# Altium integrated library USB_A_SMD.IntLib: 1 symbol
Pins are listed as number, name and electrical type; pins without a type are passive.

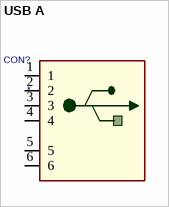
[diagram p0: symbol USB A]

## USB A
designator CON?
ID: USB - A; BUY_LINK: http://www.digikey.com/product-detail/en/AU-Y1006-2-R/AE10332-ND/2077795; PDF: http://www.assmann.us/specs/AU-Y1006-2-R.pdf; PRICE: 0.82000
footprint USB A (Right Angle)
pins: 1, 2, 3, 4, 5, 6